# Altium footprint library ESP-01&01S Module.PcbLib: 1 footprints
Each footprint in its own frame and in the unit in brackets; x right, y up, seen from the top. Pads: shape width x height; smd on the part's side, far side on the other; paste and mask are expansions set on the pad; w line width, h text height; cw(c..) or ccw(c..) is an arc to the next point about the centre after c.
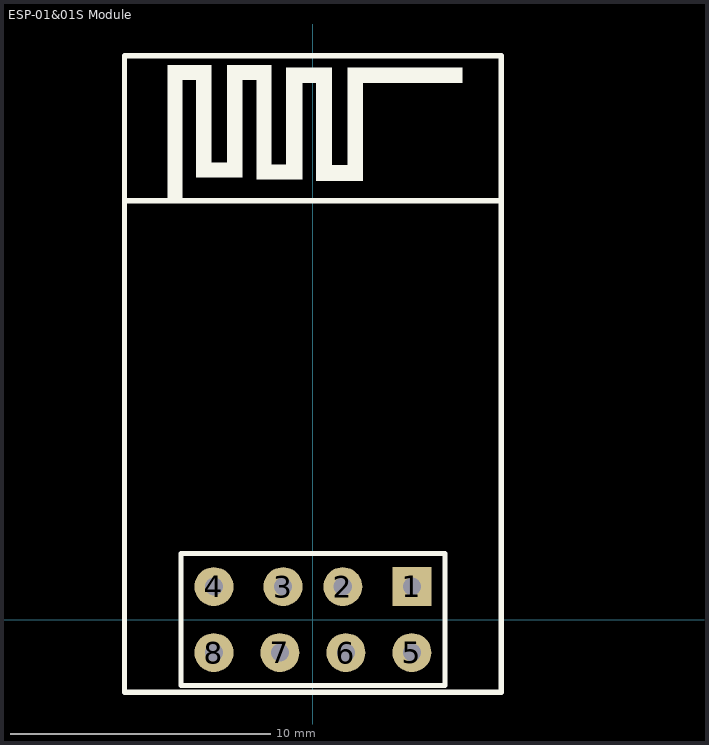
[diagram p0: the footprint, top view; thin cyan lines are the x and y axes]

## ESP-01&01S Module [mm]
pads (8):
  rect 1.5x1.5 hole 0.7: 1(3.81,1.27)
  round 1.5 hole 0.7: 2(1.15,1.27) 3(-1.15,1.27) 4(-3.81,1.27) 5(3.81,-1.27) 6(1.27,-1.27) 7(-1.27,-1.27) 8(-3.81,-1.27)
Top Overlay:
  rectangle: 1.919,20.65 5.755,21.26
  rectangle: 1.335,17.501 1.919,21.26
  rectangle: 0.726,16.891 1.919,17.501
  rectangle: 0.116,16.891 0.726,20.65
  rectangle: -0.392,20.65 0.726,21.26
  rectangle: -1.027,17.526 -0.392,21.26
  rectangle: -1.586,16.942 -0.392,17.526
  rectangle: -2.17,16.942 -1.586,20.777
  rectangle: -2.703,20.777 -1.586,21.361
  rectangle: -3.313,17.602 -2.703,21.361
  rectangle: -3.897,17.018 -2.703,17.602
  rectangle: -4.507,17.018 -3.897,20.777
  rectangle: -5.015,20.777 -3.897,21.361
  rectangle: -5.599,16.129 -5.015,21.361
  lines w0.2: -7.25,16.129 7.25,16.129 ; -7.25,-2.794 -7.25,21.706 7.25,21.706 7.25,-2.794 -7.25,-2.794 ; -5.08,-2.54 5.08,-2.54 5.08,2.54 -5.08,2.54 -5.08,-2.54